# EAGLE library part TC4469 (library My Library)
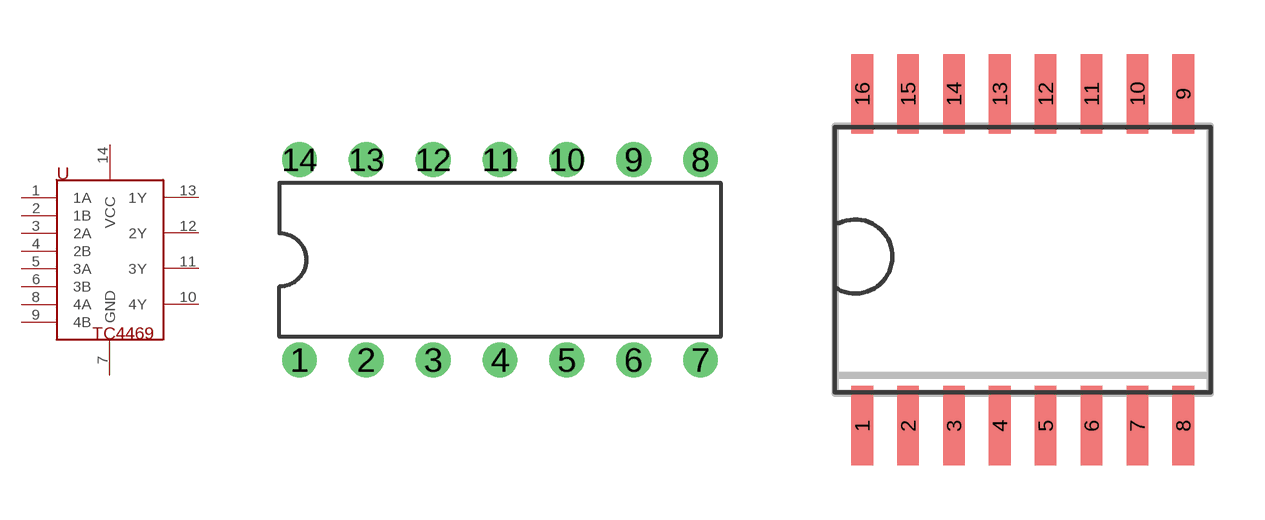
[diagram p3: symbol with the pads of 14DIP; footprints 14DIP, SO16W]

Designator prefix -

## TC4469  [14DIP]
1  1A
2  1B
3  2A
4  2B
5  3A
6  3B
7  GND
8  4A
9  4B
10  4Y
11  3Y
12  2Y
13  1Y
14  VCC

## TC4469SO16W  [SO16W]
1  1A
2  1B
3  2A
4  2B
5  3A
6  3B
7  GND
8  4A
9  4B
10  4Y

## Footprint 14DIP (pad centres in mm)
drill 0.813 round: 1 -6.35,-3.81; 2 -3.81,-3.81; 3 -1.27,-3.81; 4 1.27,-3.81; 5 3.81,-3.81; 6 6.35,-3.81; 7 8.89,-3.81; 8 8.89,3.81; 9 6.35,3.81; 10 3.81,3.81; 11 1.27,3.81; 12 -1.27,3.81; 13 -3.81,3.81; 14 -6.35,3.81

## Footprint SO16W (pad centres in mm)
smd 0.6 x 2.2: 1 -4.445,-4.6; 2 -3.175,-4.6; 3 -1.905,-4.6; 4 -0.635,-4.6; 5 0.635,-4.6; 6 1.905,-4.6; 7 3.175,-4.6; 8 4.445,-4.6; 9 4.445,4.6; 10 3.175,4.6; 11 1.905,4.6; 12 0.635,4.6; 13 -0.635,4.6; 14 -1.905,4.6; 15 -3.175,4.6; 16 -4.445,4.6